# EAGLE library part MICROUSB (library usblib)
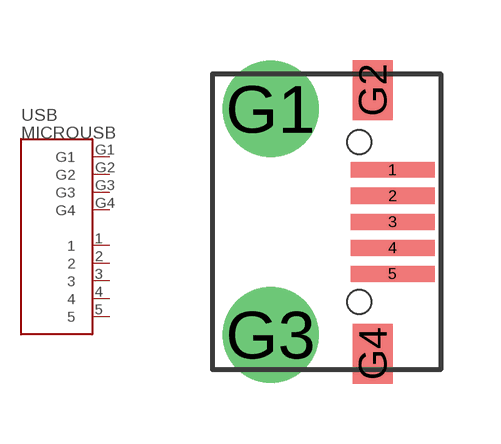
[diagram p0: symbol with the pads of MICROUSB; footprint MICROUSB]

Designator prefix USB

## MICROUSB  [MICROUSB]
1  1
2  2
3  3
4  4
5  5
G1  G1
G2  G2
G3  G3
G4  G4

## Footprint MICROUSB (pad centres in mm)
smd 2.1 x 0.4: 1 0,1.3; 2 0,0.65; 3 0,0; 4 0,-0.65; 5 0,-1.3
drill 1.6: G1 -3.05,2.825; G3 -3.05,-2.825
smd 1 x 1.5: G2 -0.5,3.3; G4 -0.5,-3.3
hole 0.6 at -0.827,2
hole 0.6 at -0.827,-2